# Altium schematic symbol library Schlib.SchLib: 18 symbols
Pins are listed as number, name and electrical type; pins without a type are passive.

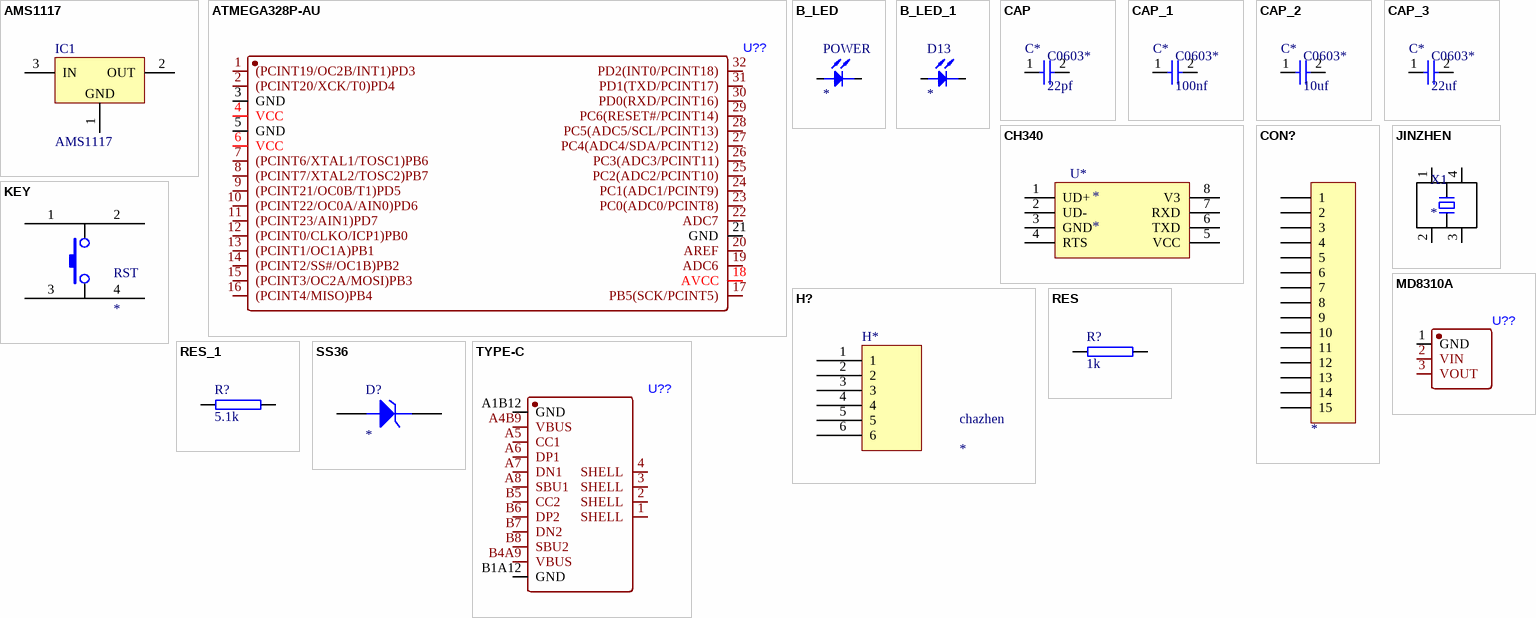
[diagram p0: symbols AMS1117 to TYPE-C]

## AMS1117
designator IC1
LDO线性稳压（5v）
footprint SOT223_N (6.4x7x1.6mm(长宽高))
pins: 1 GND, 2 OUT, 3 IN

## ATMEGA328P-AU
designator U??
主芯片
footprint TQFP-32_L7.0-W7.0-P0.80-LS9.0-BL
pins: 1 (PCINT19/OC2B/INT1)PD3, 2 (PCINT20/XCK/T0)PD4, 3 GND, 4 VCC, 5 GND, 6 VCC, 7 (PCINT6/XTAL1/TOSC1)PB6, 8 (PCINT7/XTAL2/TOSC2)PB7, 9 (PCINT21/OC0B/T1)PD5, 10 (PCINT22/OC0A/AIN0)PD6, 11 (PCINT23/AIN1)PD7, 12 (PCINT0/CLKO/ICP1)PB0, 13 (PCINT1/OC1A)PB1, 14 (PCINT2/SS#/OC1B)PB2, 15 (PCINT3/OC2A/MOSI)PB3, 16 (PCINT4/MISO)PB4, 17 PB5(SCK/PCINT5), 18 AVCC, 19 ADC6, 20 AREF, 21 GND, 22 ADC7, 23 PC0(ADC0/PCINT8), 24 PC1(ADC1/PCINT9), 25 PC2(ADC2/PCINT10), 26 PC3(ADC3/PCINT11), 27 PC4(ADC4/SDA/PCINT12), 28 PC5(ADC5/SCL/PCINT13), 29 PC6(RESET#/PCINT14), 30 PD0(RXD/PCINT16), 31 PD1(TXD/PCINT17), 32 PD2(INT0/PCINT18)

## B_LED
designator POWER
LED灯
footprint LED
pins: 1, 2

## B_LED_1
designator D13
LED灯
footprint LED
pins: 1, 2

## CAP
designator C0603*, comment 22pf
电容0603
pins: 1, 2
text: C*

## CAP_1
designator C0603*, comment 100nf
电容0603
pins: 1, 2
text: C*

## CAP_2
designator C0603*, comment 10uf
电容0603
pins: 1, 2
text: C*

## CAP_3
designator C0603*, comment 22uf
电容0603
pins: 1, 2
text: C*

## CH340
designator *
pins: 1 UD+, 2 UD-, 3 GND, 4 RTS, 5 VCC, 6 TXD, 7 RXD, 8 V3
text: U*

## CON?
designator ?
插针
pins: 1, 2, 3, 4, 5, 6, 7, 8, 9, 10, 11, 12, 13, 14, 15

## H?
designator chazhen
插针
pins: 1, 2, 3, 4, 5, 6
text: H*

## JINZHEN
designator X1
晶振
footprint JZ
pins: 1, 1, 2, 2, 3, 4

## KEY
designator RST
开关
footprint AN12
footprint AN66
pins: 1, 1, 2, 2, 3, 4

## MD8310A
designator U??
线性稳压芯片
footprint SOT-89-3_L4.5-W2.5-P1.50-LS4.2-BR
pins: 1 GND, 2 VIN, 3 VOUT

## RES
designator R?, comment 1k
电阻
footprint AXIAL0.4
footprint AXIAL0.5
pins: 1, 2

## RES_1
designator R?, comment 5.1k
电阻
footprint AXIAL0.4
footprint AXIAL0.5
pins: 1, 2

## SS36
designator D?
稳压二极管
pins: 1 A, 2 K

## TYPE-C
designator U??
type-c供电插口
footprint USB-C-SMD_TYPE-C16PIN
pins: 1 SHELL, 2 SHELL, 3 SHELL, 4 SHELL, A1B12 GND, A4B9 VBUS, A5 CC1, A6 DP1, A7 DN1, A8 SBU1, B1A12 GND, B4A9 VBUS, B5 CC2, B6 DP2, B7 DN2, B8 SBU2